# Altium footprint library LED_SMD.PcbLib: 79 footprints (part 3 of 5)
Each footprint in its own frame and in the unit in brackets; x right, y up, seen from the top. Pads: shape width x height; smd on the part's side, far side on the other; paste and mask are expansions set on the pad; w line width, h text height; cw(c..) or ccw(c..) is an arc to the next point about the centre after c.
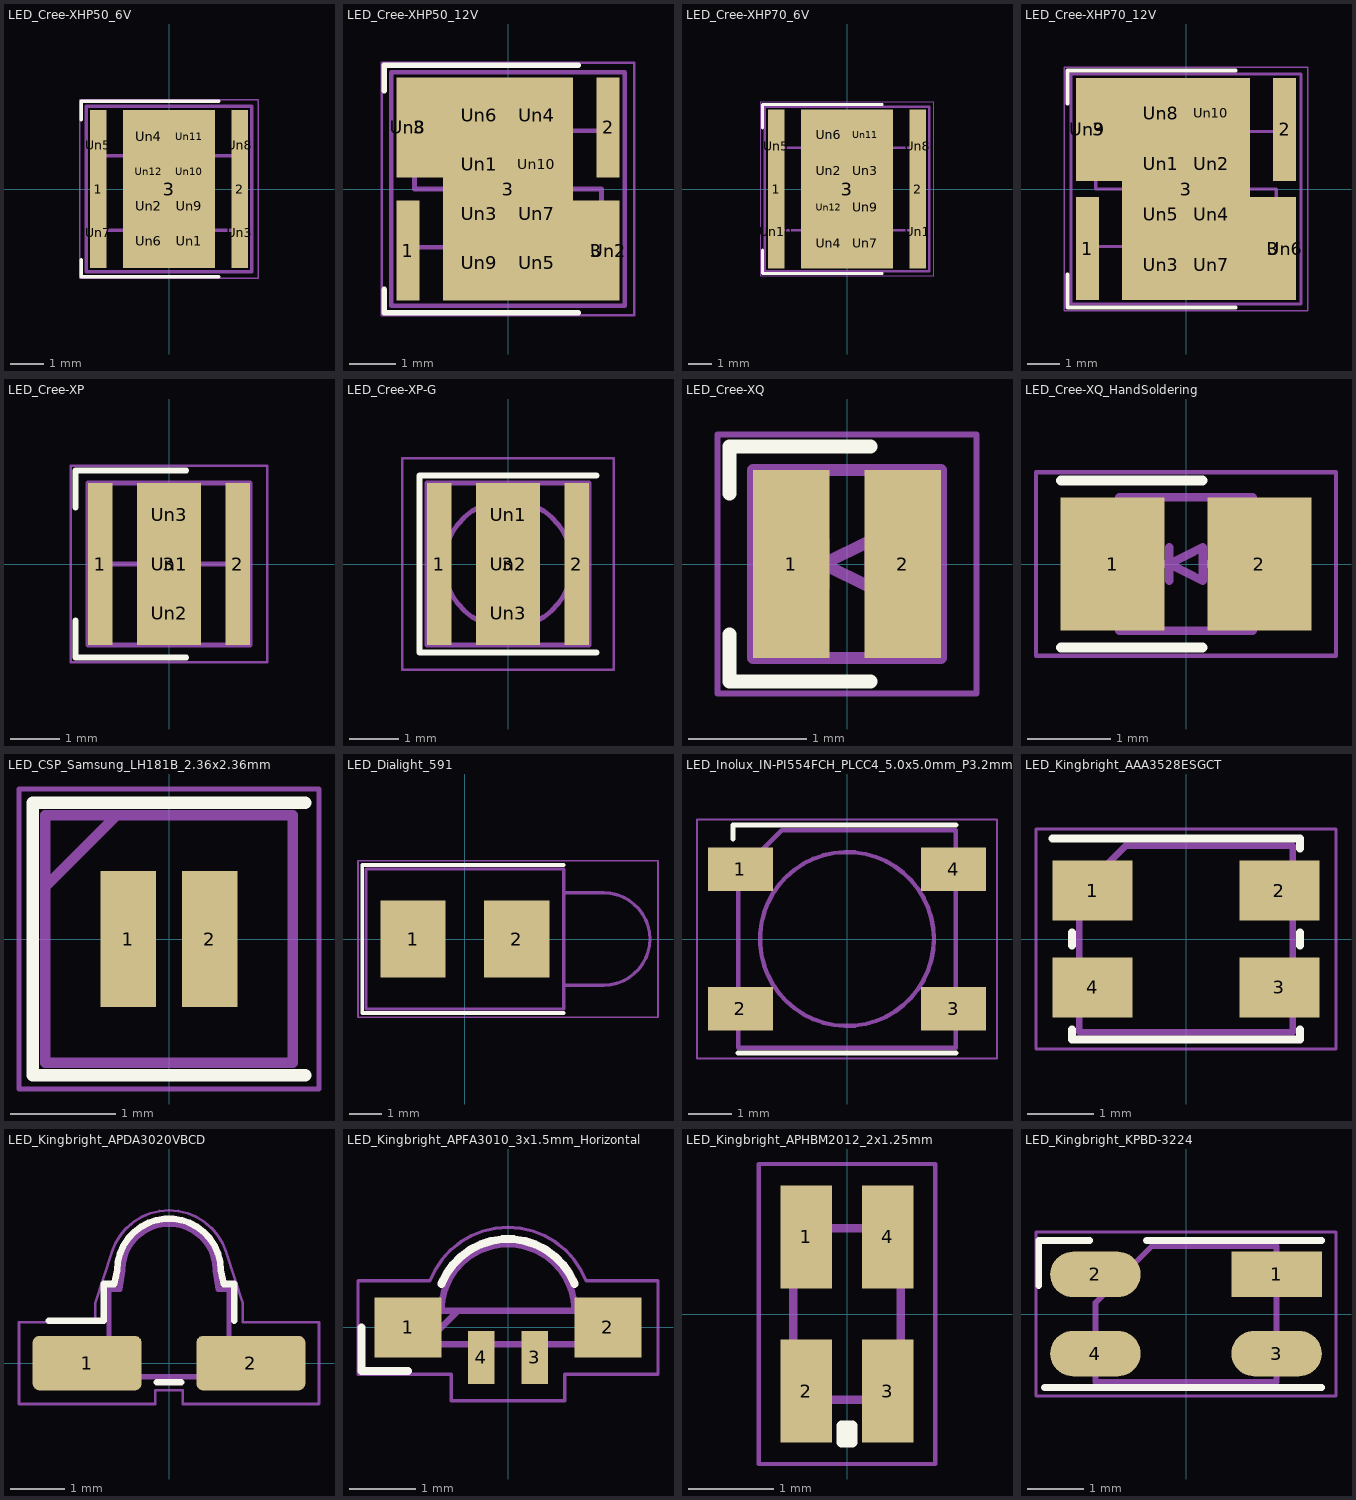
[diagram p2: the footprints below, top view; thin cyan lines are the x and y axes]

## LED_Cree-XHP50_6V [mm]
pads (15):
  rect 0.5x4.78 smd: 1(-2.14,0) 2(2.14,0)
  rect 2.78x4.78 smd: 3(0,0)
  rect 0.97x0.8 on Top Paste: Un1(0.61,-1.575) Un2(-0.61,-0.525) Un4(-0.61,1.575) Un6(-0.61,-1.575) Un9(0.61,-0.525) Un10(0.61,0.525) Un11(0.61,1.575) Un12(-0.61,0.525)
  rect 0.5x2.14 on Top Paste: Un3(2.14,-1.32) Un5(-2.14,1.32) Un7(-2.14,-1.32) Un8(2.14,1.32)
F.SilkS:
  lines w0.12: -2.65,-2.15 -2.65,-2.65 1.5,-2.65 ; -2.65,2.1 -2.65,2.65 1.5,2.65
F.CrtYd:
  lines w0.05: -2.7,-2.7 -2.7,2.7 2.7,2.7 2.7,-2.7 -2.7,-2.7
F.Fab:
  lines w0.1: -2,-1.25 -1.25,-1.25 ; -2,1 -1.25,1 ; -1.25,-1.75 -1.25,-1.25 ; -1.25,-0.75 -1.25,-1.25 ; -1.25,0.5 -1.25,1 ; -1.25,1.5 -1.25,1 ; -0.5,-1.25 0.5,-1.25 ; -0.5,1 0.5,1 ; 0.5,-1.75 0.5,-0.75 ; 0.5,0.5 0.5,1.5 ; 2,-1.25 1.5,-1.25 1.25,-1.25 ; 2,1 1.5,1 1.25,1 ; -1.25,-1.25 -0.5,-1.75 -0.5,-0.75 -1.25,-1.25 ; -1.25,1 -0.5,1.5 -0.5,0.5 -1.25,1 ; 0.5,-1.25 1.25,-1.75 1.25,-1.25 ; 0.5,-1.25 1.25,-0.75 1.25,-1.25 ; 0.5,1 1.25,0.5 1.25,1 ; 0.5,1 1.25,1.5 1.25,1 ; -2.5,-2.5 2.5,-2.5 2.5,2.5 -2.5,2.5 -2.5,-2.5
  text "'.Designator'" at -3.997,-0.79 h1

## LED_Cree-XHP50_12V [mm]
pads (15):
  rect 0.5x2.14 smd: 1(-2.14,-1.32) 2(2.14,1.32)
  rect 1x2.14 smd: 3(-1.89,1.32) 3(1.89,-1.32)
  rect 2.78x4.78 smd: 3(0,0)
  rect 0.97x0.8 on Top Paste: Un1(-0.61,0.525) Un3(-0.61,-0.525) Un4(0.61,1.575) Un5(0.61,-1.575) Un6(-0.61,1.575) Un7(0.61,-0.525) Un9(-0.61,-1.575) Un10(0.61,0.525)
  rect 0.5x2.14 on Top Paste: Un2(2.14,-1.32) Un8(-2.14,1.32)
F.SilkS:
  lines w0.12: -2.65,-2.15 -2.65,-2.65 1.5,-2.65 ; -2.65,2.1 -2.65,2.65 1.5,2.65
F.CrtYd:
  lines w0.05: -2.7,-2.7 2.7,-2.7 2.7,2.7 -2.7,2.7 -2.7,-2.7
F.Fab:
  lines w0.1: -2,-1.25 -1.25,-1.25 ; -1.25,-1.75 -1.25,-1.25 ; -1.25,-0.75 -1.25,-1.25 ; -1.25,0.75 -1.25,1.25 ; -1.25,1.75 -1.25,1.25 ; -0.5,-1.25 0.5,-1.25 ; -0.5,1.25 0.5,1.25 ; 0.5,-1.75 0.5,-0.75 ; 0.5,0.75 0.5,1.75 ; 1.25,-1.25 2,-1.25 2,0 -2,0 -2,1.25 -1.25,1.25 ; 2,1.25 1.25,1.25 ; -1.25,-1.25 -0.5,-1.75 -0.5,-0.75 -1.25,-1.25 ; -1.25,1.25 -0.5,0.75 -0.5,1.75 -1.25,1.25 ; 0.5,-1.25 1.25,-1.75 1.25,-0.75 0.5,-1.25 ; 0.5,1.25 1.25,1.75 1.25,1.25 ; 0.5,1.25 1.25,0.75 1.25,1.25 ; -2.5,-2.5 -2.5,2.5 2.5,2.5 2.5,-2.5 -2.5,-2.5
  text "'.Designator'" at -3.997,-0.79 h1

## LED_Cree-XHP70_6V [mm]
pads (15):
  rect 0.7x6.76 smd: 1(-3,0) 2(3,0)
  rect 3.9x6.76 smd: 3(0,0)
  rect 0.7x3.13 on Top Paste: Un1(3,-1.815) Un5(-3,1.815) Un8(3,1.815) Un10(-3,-1.815)
  rect 1.29x1.29 on Top Paste: Un2(-0.77,0.77) Un3(0.77,0.77) Un4(-0.77,-2.31) Un6(-0.77,2.31) Un7(0.77,-2.31) Un9(0.77,-0.77) Un11(0.77,2.31) Un12(-0.77,-0.77)
F.SilkS:
  lines w0.12: -3.6,-2.6 -3.6,-3.6 1.5,-3.6 ; -3.6,2.6 -3.6,3.6 1.5,3.6
F.CrtYd:
  lines w0.05: -3.7,-3.7 3.7,-3.7 3.7,3.7 -3.7,3.7 -3.7,-3.7
F.Fab:
  lines w0.1: -2.75,-1.75 -1.75,-1.75 ; -2.75,1.75 -1.75,1.75 ; -1.75,-2.5 -1.75,-1.75 ; -1.75,-1 -1.75,-1.75 ; -1.75,1 -1.75,1.75 ; -1.75,2.5 -1.75,1.75 ; -0.5,-1.75 0.5,-1.75 ; -0.5,1.75 0.5,1.75 ; 0.5,-2.5 0.5,-1 ; 0.5,1 0.5,2.5 ; 2.75,-1.75 1.75,-1.75 ; 2.75,1.75 1.75,1.75 ; -1.75,-1.75 -0.5,-2.5 -0.5,-1 -1.75,-1.75 ; -1.75,1.75 -0.5,2.5 -0.5,1 -1.75,1.75 ; 0.5,-1.75 1.75,-2.5 1.75,-1.75 ; 0.5,-1.75 1.75,-1 1.75,-1.75 ; 0.5,1.75 1.75,1 1.75,1.75 ; 0.5,1.75 1.75,2.5 1.75,1.75 ; -3.5,-3.5 -3.5,3.5 3.5,3.5 3.5,-3.5 -3.5,-3.5
  text "'.Designator'" at -3.997,-0.79 h1

## LED_Cree-XHP70_12V [mm]
pads (15):
  rect 0.7x3.13 smd: 1(-3,-1.815) 2(3,1.815)
  rect 1.4x3.13 smd: 3(-2.65,1.815) 3(2.65,-1.815)
  rect 3.9x6.76 smd: 3(0,0)
  rect 1.29x1.29 on Top Paste: Un1(-0.77,0.77) Un2(0.77,0.77) Un3(-0.77,-2.31) Un4(0.77,-0.77) Un5(-0.77,-0.77) Un7(0.77,-2.31) Un8(-0.77,2.31) Un10(0.77,2.31)
  rect 0.7x3.13 on Top Paste: Un6(3,-1.815) Un9(-3,1.815)
F.SilkS:
  lines w0.12: -3.6,-2.6 -3.6,-3.6 1.5,-3.6 ; -3.6,2.6 -3.6,3.6 1.5,3.6
F.CrtYd:
  lines w0.05: -3.7,-3.7 -3.7,3.7 3.7,3.7 3.7,-3.7 -3.7,-3.7
F.Fab:
  lines w0.1: -2.75,-1.75 -1.75,-1.75 ; -1.75,-2.5 -1.75,-1.75 ; -1.75,-1 -1.75,-1.75 ; -1.75,1 -1.75,1.75 ; -1.75,2.5 -1.75,1.75 ; -0.5,-1.75 0.5,-1.75 ; -0.5,1.75 0.5,1.75 ; 0.5,-2.5 0.5,-1 ; 0.5,1 0.5,2.5 ; 2.75,1.75 1.75,1.75 ; -1.75,-1.75 -0.5,-1 -0.5,-2.5 -1.75,-1.75 ; -1.75,1.75 -0.5,1 -0.5,2.5 -1.75,1.75 ; -1.75,1.75 -2.75,1.75 -2.75,0 2.75,0 2.75,-1.75 1.75,-1.75 ; 0.5,-1.75 1.75,-1 1.75,-1.75 ; 0.5,-1.75 1.75,-2.5 1.75,-1.75 ; 0.5,1.75 1.75,2.5 1.75,1.75 ; 0.5,1.75 1.75,1 1.75,1.75 ; -3.5,-3.5 3.5,-3.5 3.5,3.5 -3.5,3.5 -3.5,-3.5
  text "'.Designator'" at -3.997,-0.79 h1

## LED_Cree-XP [mm]
pads (6):
  rect 0.5x3.3 smd: 1(-1.4,0) 2(1.4,0)
  rect 1.3x3.3 smd: 3(0,0)
  rect 1.01x0.75 on Top Paste: Un1(0,0) Un2(0,-1) Un3(0,1)
F.SilkS:
  lines w0.12: -1.9,-1.15 -1.9,-1.9 0.35,-1.9 ; -1.9,1.15 -1.9,1.9 0.35,1.9
F.CrtYd:
  lines w0.05: -2,-2 -2,2 2,2 2,-2 -2,-2
F.Fab:
  lines w0.1: -1.25,0 -0.5,0 ; -0.5,-0.5 -0.5,0.5 ; 0.5,0 1.25,0 ; -0.5,0 0.5,0.5 0.5,-0.5 -0.5,0 ; -1.65,-1.65 1.65,-1.65 1.65,1.65 -1.65,1.65 -1.65,-1.65
  text "'.Designator'" at -3.197,-0.632 h0.8

## LED_Cree-XP-G [mm]
pads (6):
  rect 0.5x3.3 smd: 1(-1.4,0) 2(1.4,0)
  rect 1.3x3.3 smd: 3(0,0)
  rect 1.01x0.75 on Top Paste: Un1(0,1) Un2(0,0) Un3(0,-1)
F.SilkS:
  lines w0.12: 1.8,-1.8 -1.8,-1.8 -1.8,1.8 1.8,1.8
F.CrtYd:
  lines w0.05: -2.15,-2.15 -2.15,2.15 2.15,2.15 2.15,-2.15 -2.15,-2.15
F.Fab:
  circle w0.1: c0,0 r1.3
  lines w0.1: -1.65,-1.65 -1.65,1.65 1.65,1.65 1.65,-1.65 -1.65,-1.65
  text "'.Designator'" at -3.197,-0.632 h0.8

## LED_Cree-XQ [mm]
pads (2):
  rect 0.65x1.6 smd: 1(-0.475,0) 2(0.475,0)
F.SilkS:
  lines w0.12: -1,-0.6 -1,-1 0.2,-1 ; -1,0.6 -1,1 0.2,1
F.CrtYd:
  lines w0.05: -1.1,-1.1 -1.1,1.1 1.1,1.1 1.1,-1.1 -1.1,-1.1
F.Fab:
  lines w0.1: -0.6,0 -0.2,0 ; -0.2,-0.2 -0.2,0.2 ; 0.2,0 0.6,0 ; -0.2,0 0.2,-0.2 0.2,0.2 -0.2,0 ; -0.8,-0.8 -0.8,0.8 0.8,0.8 0.8,-0.8 -0.8,-0.8
  text "'.Designator'" at -1.998,-0.395 h0.5

## LED_Cree-XQ_HandSoldering [mm]
pads (2):
  rect 1.25x1.6 smd: 1(-0.88,0) 2(0.88,0)
F.SilkS:
  lines w0.12: -1.5,-1 0.2,-1 ; -1.5,1 0.2,1
F.CrtYd:
  lines w0.05: -1.8,-1.1 1.8,-1.1 1.8,1.1 -1.8,1.1 -1.8,-1.1
F.Fab:
  lines w0.1: -0.6,0 -0.2,0 ; -0.2,-0.2 -0.2,0.2 ; 0.2,0 0.6,0 ; -0.2,0 0.2,0.2 0.2,-0.2 -0.2,0 ; -0.8,-0.8 -0.8,0.8 0.8,0.8 0.8,-0.8 -0.8,-0.8
  text "'.Designator'" at -1.998,-0.395 h0.5

## LED_CSP_Samsung_LH181B_2.36x2.36mm [mm]
pads (2):
  rect 0.53x1.3 smd: 1(-0.39,0) 2(0.39,0)
F.SilkS:
  lines w0.12: 1.3,-1.3 -1.3,-1.3 -1.3,1.3 1.3,1.3
F.CrtYd:
  lines w0.05: -1.43,-1.43 1.43,-1.43 1.43,1.43 -1.43,1.43 -1.43,-1.43
F.Fab:
  lines w0.1: -1.18,0.5 -0.5,1.18 ; -1.18,-1.18 1.18,-1.18 1.18,1.18 -1.18,1.18 -1.18,-1.18
  text "'.Designator'" at -2.023,-0.42 h0.5

## LED_Dialight_591 [mm]
pads (2):
  rect 2.01x2.39 smd: 1(-1.6,0) 2(1.6,0)
F.SilkS:
  lines w0.12: 3.05,-2.28 -3.17,-2.28 -3.17,2.28 3.05,2.28
F.CrtYd:
  lines w0.05: -3.3,-2.41 -3.3,2.41 5.96,2.41 5.96,-2.41 -3.3,-2.41
F.Fab:
  lines w0.1: 3.05,-1.425 4.285,-1.425 ccw(c4.285,0) 4.285,1.425 3.05,1.425 ; -3.05,-2.16 -3.05,2.16 3.05,2.16 3.05,-2.16 -3.05,-2.16
  text "'.Designator'" at -4.047,-0.84 h1

## LED_Inolux_IN-PI554FCH_PLCC4_5.0x5.0mm_P3.2mm [mm]
pads (4):
  rect 1.5x1 smd: 1(-2.45,1.6) 2(-2.45,-1.6) 3(2.45,-1.6) 4(2.45,1.6)
F.SilkS:
  lines w0.12: -2.62,2.3 -2.62,2.62 2.5,2.62 ; -2.5,-2.62 2.5,-2.62
F.CrtYd:
  lines w0.05: -3.45,-2.75 -3.45,2.75 3.45,2.75 3.45,-2.75 -3.45,-2.75
F.Fab:
  circle w0.1: c0,0 r2
  lines w0.1: -2.5,-2.5 2.5,-2.5 2.5,2.5 -1.5,2.5 -2.5,1.5 -2.5,-2.5
  text "'.Designator'" at -3.267,-0.702 h0.8
3D body "LED_Inolux_IN-PI554FCH_PLCC4_5.0x5.0mm_P3.2mm.step": height 1.7, standoff 0, extent -2.7,-2.5 2.7,2.5

## LED_Kingbright_AAA3528ESGCT [mm]
pads (4):
  rect 1.2x0.9 smd: 1(-1.4,0.725) 2(1.4,0.725) 3(1.4,-0.725) 4(-1.4,-0.725)
F.SilkS:
  lines w0.12: -2,1.51 1.71,1.51 1.71,1.355 ; -1.71,-1.355 -1.71,-1.51 1.71,-1.51 1.71,-1.355 ; -1.71,-0.095 -1.71,0.095 ; 1.71,-0.095 1.71,0.095
F.CrtYd:
  lines w0.05: -2.25,-1.65 -2.25,1.65 2.25,1.65 2.25,-1.65 -2.25,-1.65
F.Fab:
  lines w0.1: -1.6,-1.4 1.6,-1.4 1.6,1.4 -0.9,1.4 -1.6,0.7 -1.6,-1.4
  text "'.Designator'" at -3.247,-0.682 h0.8

## LED_Kingbright_APDA3020VBCD [mm]
pads (2):
  rrect25% 2x1 smd: 1(-1.5,0) 2(1.5,0)
F.SilkS:
  lines w0.12: -2.2,0.775 -1.2,0.775 -1.2,1.45 -1,1.45 -0.95,1.7 cw(c0,1.7) 0.95,1.7 1,1.45 1.2,1.45 1.2,0.775 ; -0.225,-0.35 0.225,-0.35
F.CrtYd:
  lines w0.05: -2.75,-0.75 -0.25,-0.75 -0.25,-0.5 0.25,-0.5 0.25,-0.75 2.75,-0.75 2.75,0.75 1.35,0.75 1.35,1.1 1.05,2.03 ccw(c0,1.699) -1.05,2.03 -1.35,1.1 -1.35,0.75 -2.75,0.75 -2.75,-0.75
F.Fab:
  lines w0.1: -1.425,-0.25 -1.425,0.25 ; -1.325,-0.25 -1.325,0.25 ; -1.275,-0.25 -1.275,0.25 ; -1.5,-0.25 1.5,-0.25 1.5,0.25 1.1,0.25 1.1,1.35 0.9,1.35 0.85,1.7 ccw(c0,1.7) -0.85,1.7 -0.9,1.35 -1.1,1.35 -1.1,0.25 -1.5,0.25 -1.5,-0.25
  text "'.Designator'" at 0.539,-1.313 h0.6

## LED_Kingbright_APFA3010_3x1.5mm_Horizontal [mm]
pads (4):
  rect 1x0.9 smd: 1(-1.5,0) 2(1.5,0)
  rect 0.4x0.8 smd: 3(0.4,-0.45) 4(-0.4,-0.45)
F.SilkS:
  lines w0.12: -2.2,0 -2.2,-0.65 -1.5,-0.65 ; -1,0.65 cw(c0,0.25) 1,0.65
F.CrtYd:
  lines w0.05: -2.25,-0.7 -2.25,0.7 -1.17,0.7 cw(c0,0.25) 1.17,0.7 2.25,0.7 2.25,-0.7 0.85,-0.7 0.85,-1.1 -0.85,-1.1 -0.85,-0.7 -2.25,-0.7
F.Fab:
  lines w0.1: -1.25,-0.25 -0.75,0.25 ; -1,0.25 cw(c0,0.25) 1,0.25 ; -1.5,-0.25 -1.5,0.25 1.5,0.25 1.5,-0.25 -1.5,-0.25
  text "'.Designator'" at -1.214,-0.252 h0.3

## LED_Kingbright_APHBM2012_2x1.25mm [mm]
pads (4):
  rect 0.6x1.2 smd: 1(-0.475,0.9) 2(-0.475,-0.9) 3(0.475,-0.9) 4(0.475,0.9)
F.SilkS:
  lines w0.12: -0.06,-1.5 -0.06,-1.3 0.06,-1.3 0.06,-1.5 -0.06,-1.5
F.CrtYd:
  lines w0.05: -1.03,-1.75 1.03,-1.75 1.03,1.75 -1.03,1.75 -1.03,-1.75
F.Fab:
  lines w0.1: -0.625,-1 -0.625,0.7 -0.325,1 0.625,1 0.625,-1 -0.625,-1
  text "'.Designator'" at -3.897,1.66 h1

## LED_Kingbright_KPBD-3224 [mm]
pads (4):
  rect 1.6x0.8 smd: 1(1.6,0.7)
  rrect100% 1.6x0.8 smd: 2(-1.6,0.7) 3(1.6,-0.7) 4(-1.6,-0.7)
F.SilkS:
  lines w0.12: -2.6,0.5 -2.6,1.3 -1.7,1.3 ; -2.5,-1.3 2.4,-1.3 ; -0.7,1.3 2.4,1.3
F.CrtYd:
  lines w0.05: -2.65,-1.45 -2.65,1.45 2.65,1.45 2.65,-1.45 -2.65,-1.45
F.Fab:
  lines w0.1: -1.6,-1.2 1.6,-1.2 1.6,1.2 -0.6,1.2 -1.6,0.2 -1.6,-1.2
  text "'.Designator'" at -2.928,-0.583 h0.7